# Altium schematic symbol library QUTMS_RelayLibrary.SchLib: 1 symbol
Pins are listed as number, name and electrical type; pins without a type are passive.

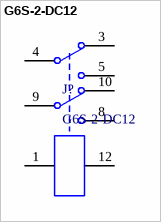
[diagram p0: symbol G6S-2-DC12]

## G6S-2-DC12
designator J?
Telecom Non Latching 12VDC DPDT 2A Through Hole Relays RoHS; ComponentLink1Description: LCSC; ComponentLink1URL: https://lcsc.com/product-detail/Relays_OMRON_G6S-2-12V_G6S-2-12V_C28410.html
footprint G6S-2
pins: 1, 3, 4, 5, 8, 9, 10, 12